# EAGLE library part S4-0606 (library X893)
ROM-based standalone GPS module Datasheet <http://www.apc-hero.co.uk/uploads/pdf/Locosys/Locosys%20S4-0606_datasheet_v1.0%20April%202012.pdf>
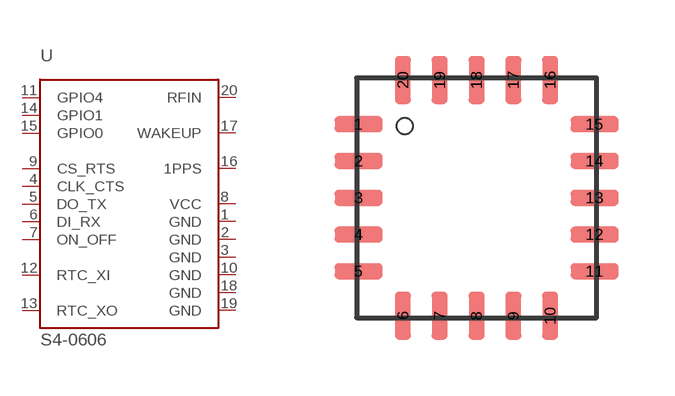
[diagram p211: symbol with the pads of S4-0606; footprint S4-0606]

Designator prefix U

## S4-0606  [S4-0606]
1  GND
2  GND
3  GND
4  CLK_CTS
5  DO_TX  out
6  DI_RX  in
7  ON_OFF  in
8  VCC  pwr
9  CS_RTS
10  GND  pwr
11  GPIO4
12  RTC_XI
13  RTC_XO
14  GPIO1
15  GPIO0
16  1PPS  out
17  WAKEUP  out
18  GND  pwr
19  GND  pwr
20  RFIN  pas

## Footprint S4-0606 (pad centres in mm)
smd 1.2 x 0.4: 1 -2.95,1.84; 2 -2.95,0.92; 3 -2.95,0; 4 -2.95,-0.92; 5 -2.95,-1.84; 11 2.95,-1.84; 12 2.95,-0.92; 13 2.95,0; 14 2.95,0.92; 15 2.95,1.84
smd 0.4 x 1.2: 6 -1.84,-2.95; 7 -0.92,-2.95; 8 0,-2.95; 9 0.92,-2.95; 10 1.84,-2.95; 16 1.84,2.95; 17 0.92,2.95; 18 0,2.95; 19 -0.92,2.95; 20 -1.84,2.95